# EAGLE library part SWITCH-DP3T (library iStivi - Button-Switch)
DP3T Switch
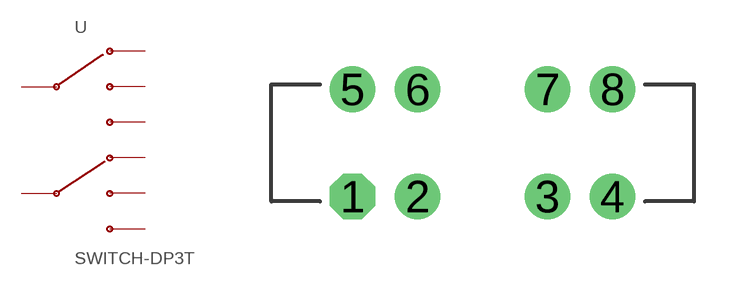
[diagram p1: symbol with the pads of JS203011; footprint JS203011]

Designator prefix -

## SWITCH-DP3TJS203011  [JS203011]
1  1
2  2
3  3
4  4
5  5
6  6
7  7
8  8

## Footprint JS203011 (pad centres in mm)
C&K JS203011 DP3T Switch
drill 0.9 octagon: 1 -4,-1.65
drill 0.9: 2 -2,-1.65; 3 2,-1.65; 4 4,-1.65; 5 -4,1.65; 6 -2,1.65; 7 2,1.65; 8 4,1.65